# Altium footprint library XTAL_5x3.2-2.PcbLib: 1 footprints
Each footprint in its own frame and in the unit in brackets; x right, y up, seen from the top. Pads: shape width x height; smd on the part's side, far side on the other; paste and mask are expansions set on the pad; w line width, h text height; cw(c..) or ccw(c..) is an arc to the next point about the centre after c.
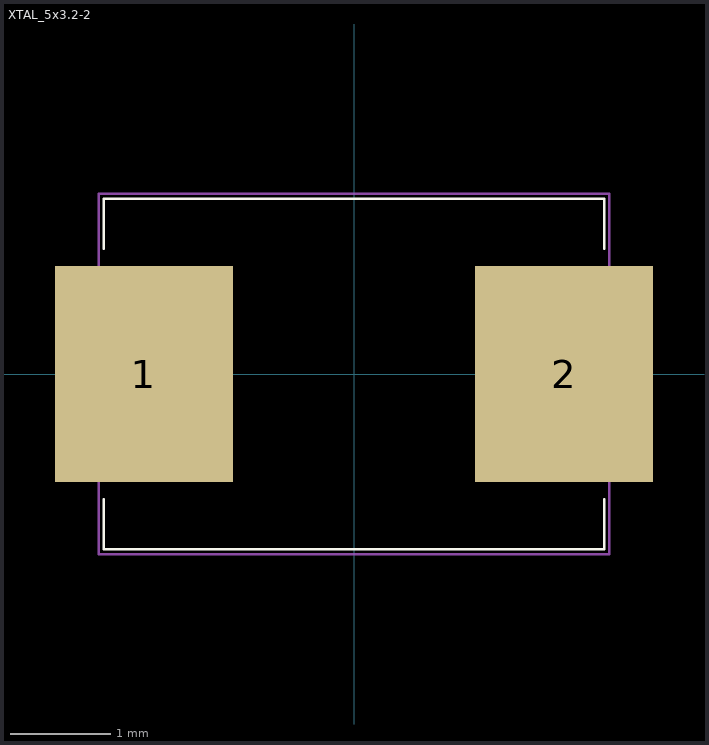
[diagram p0: the footprint, top view; thin cyan lines are the x and y axes]

## XTAL_5x3.2-2 [mil] "XTAL150SMD_125X196"
height 51.18
pads (2):
  rect 70x85 smd mask+2: 1(-82.68,0) 2(82.68,0)
Top Overlay:
  lines w0.98: -98.43,-68.9 -98.43,-49.21 ; -98.43,49.21 -98.43,68.9 ; 98.43,-68.9 98.43,-49.21 ; 98.43,49.21 98.43,68.9
  lines w1: -98.43,-68.9 98.43,-68.9 ; -98.43,68.9 98.43,68.9
Mechanical 15:
  lines w0.98: -100.39,-70.87 -100.39,68.9 -100.39,70.87 100.39,70.87 100.39,68.9 100.39,-70.87 -100.39,-70.87
3D body: height 51.18, standoff -0.1, extent -98.42,-62.99 98.43,63